# Altium schematic symbol library SimpleComponents.SchLib: 27 symbols
Pins are listed as number, name and electrical type; pins without a type are passive.

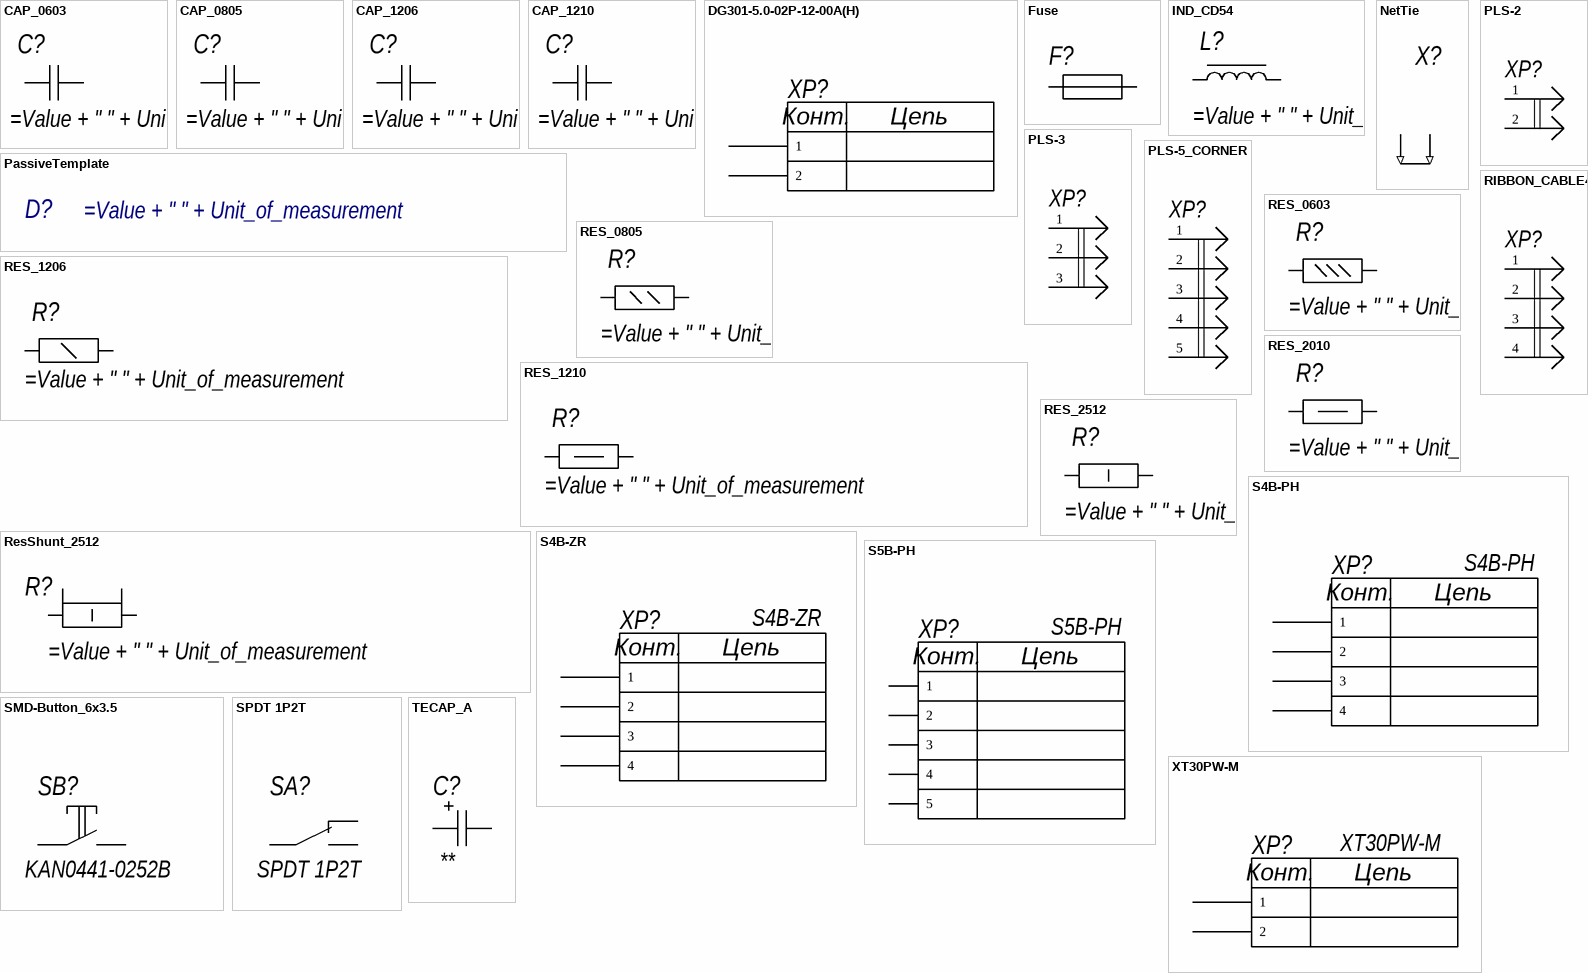
[diagram p0: symbols CAP_0603 to XT30PW-M]

## CAP_0603
designator C?
Конденсатор керамический, типоразмера 0603; Unit_of_measurement: Ф; Value: *; ComponentLink1Description: New link; ComponentLink1URL: *
footprint CAP_0603 (Chip Capacitor, 2-Leads, Body 1,60x0,80mm, IPC Medium Density)
pins: 1 "Информационный вход Х6", 2 "Информационный вход Х6"

## CAP_0805
designator C?
Конденсатор керамический, типоразмера 0805; Unit_of_measurement: Ф; Value: *; ComponentLink1Description: New link; ComponentLink1URL: *
footprint CAP_0805
pins: 1 "Информационный вход Х6", 2 "Информационный вход Х6"

## CAP_1206
designator C?
Конденсатор керамический, типоразмера 1206; Unit_of_measurement: Ф; Value: *; ComponentLink1Description: New link; ComponentLink1URL: *
footprint CAP_1206
pins: 1 "Информационный вход Х6", 2 "Информационный вход Х6"

## CAP_1210
designator C?
Конденсатор керамический, типоразмера 1210; Unit_of_measurement: Ф; Value: *; ComponentLink1Description: New link; ComponentLink1URL: *
footprint CAP_1210
pins: 1 "Информационный вход Х6", 2 "Информационный вход Х6"

## DG301-5.0-02P-12-00A(H)
designator XP?
PCB screw terminal block; angled 90°; 5mm; ways: 2; on PCBs; 1.5mm2; blue / Manufacturer part number: / DG301-5.0-02P-12-00A(H) / TME Symbol: / DG301-5.0-2P12
footprint DG301-5.0-02P-12-00A(H) (PCB screw terminal block; angled 90°; 5mm; ways: 2; on PCBs; 1.5mm2; blue / Manufacturer part number: / DG301-5.0-02P-12-00A(H) / TME Symbol: / DG301-5.0-2P12)
pins: 1 "Информационный вход Х6", 2 "Информационный вход Х6"
text: Конт.; Цепь

## Fuse
designator F?, comment ва  (value not drawn)
Предохранитель плавкий 5x20
footprint Fuse 5x20
footprint Fuse 5x20 - BLX-A
pins: 1, 2

## IND_CD54
designator L?
Дроссель; Unit_of_measurement: Гн; Value: *; ComponentLink1Description: New link; ComponentLink1URL: *
footprint CD54
pins: 1, 2

## NetTie
designator X?, comment Обозначение при заказе  (value not drawn)  (net tie, no BOM)
Описание свойств компонента
footprint NetTie
pins: 1 (in) "Информационный вход Х6", 2 (in) "Информационный вход Х6"

## PassiveTemplate
designator D?
!!! Обязательно Впишите описание символа; Value: *; ComponentLink1Description: New link; ComponentLink1URL: *; Unit_of_measurement: *

## PLS-2
designator XP?
Connector pls with 2 pins
footprint PLS-2
pins: 1, 2

## PLS-3
designator XP?
Connector pls with 3 pins
footprint PLS-3
pins: 1, 2, 3

## PLS-5_CORNER
designator XP?
Connector pls with 5 horizontal pins
footprint PLS-5_CORNER
pins: 1, 2, 3, 4, 5

## RES_0603
designator R?
Резистор, типоразмера 0603; Unit_of_measurement: Ом; Value: *; ComponentLink1Description: New link; ComponentLink1URL: *
footprint RES_0603 (Chip Resistor, 2-Leads, Body 1,60x0,80mm, IPC Medium Density)
pins: 1, 2

## RES_0805
designator R?
Резистор, типоразмера 0805; Unit_of_measurement: Ом; Value: *; ComponentLink1Description: New link; ComponentLink1URL: *
footprint RES_0805
pins: 1, 2

## RES_1206
designator R?
Резистор, типоразмера 1206; Unit_of_measurement: Ом; Value: *; ComponentLink1Description: New link; ComponentLink1URL: *
footprint RES_1206
pins: 1, 2

## RES_1210
designator R?
Резистор, типоразмера 1210; Unit_of_measurement: Ом; Value: *; ComponentLink1Description: New link; ComponentLink1URL: *
footprint RES_1210
pins: 1, 2

## RES_2010
designator R?
Резистор, типоразмера 2010; Unit_of_measurement: Ом; Value: *; ComponentLink1Description: New link; ComponentLink1URL: *
footprint RES_2010
pins: 1, 2

## RES_2512
designator R?
Резистор, типоразмера 2512; Unit_of_measurement: Ом; Value: *; ComponentLink1Description: New link; ComponentLink1URL: *
footprint RES_2512
pins: 1, 2

## ResShunt_2512
designator R?
Резистор, типоразмера 2512; Unit_of_measurement: Ом; Value: *; ComponentLink1Description: New link; ComponentLink1URL: *
footprint RES_2512
pins: 1, 1, 2, 2

## RIBBON_CABLE4
designator XP?
1.27 PITCH / 4 WIRES
footprint RibbonCable_1 (4 Pin / 1.27mm Pitch)
pins: 1, 2, 3, 4 3

## S4B-PH
designator XP?
JST PH 4pin 2 mm pitch; horizontal; through hole OR full smd; S4B-PH-SM4-TB
footprint S4B-PH
footprint S4B-PH-SM4-TB
pins: 1 "Информационный вход Х6", 2 "Информационный вход Х6", 3 "Информационный вход Х6", 4 "Информационный вход Х6"
text: Конт.; Цепь

## S4B-ZR
designator XP?
JST ZH 4pin 1.5 mm pitch; horizontal; through hole OR full smd; S4B-ZR
footprint S4B-ZR
footprint S4B-ZR-SM4A-TF
pins: 1 "Информационный вход Х6", 2 "Информационный вход Х6", 3 "Информационный вход Х6", 4 "Информационный вход Х6"
text: Конт.; Цепь

## S5B-PH
designator XP?
JST PH 5pin 2 mm pitch; horizontal; through hole OR full smd; S5B-PH-SM4-TB
footprint S5B-PH-K-S
footprint S5B-PH-SM4-TB
pins: 1 "Информационный вход Х6", 2 "Информационный вход Х6", 3 "Информационный вход Х6", 4 "Информационный вход Х6", 5 "Информационный вход Х6"
text: Конт.; Цепь

## SMD-Button_6x3.5
designator SB?, comment KAN0441-0252B
Описание свойств компонента
footprint SMD-BUTTON_6x3.5
pins: 1 S1, 2 S2

## SPDT 1P2T
designator SA?
Описание свойств компонента
footprint SPDT 1P2T
pins: 1 S1, 2, 3

## TECAP_A
designator C?, comment **
Описание свойств компонента; Value: *; Unit_of_measurement: *
footprint TECAP_A (Molded Capacitor, 2-Leads, Body 3,20x1,60mm, IPC Medium Density)
pins: 1 "Информационный вход Х6", 2 "Информационный вход Х6"

## XT30PW-M
designator XP?
Socket; DC supply; XT30; male; PIN: 2; on PCBs; THT; yellow; 15A; 500V
footprint XT30PW-M
pins: 1 "Информационный вход Х6", 2 "Информационный вход Х6"
text: Конт.; Цепь